# EAGLE library part EP3C40Q240 (library altera-cyclone-III)
EP3C40Q240 edit this description Auto generated by make-symbol-device-package-bsdl.ulp Rev. 34 Source: EP3C40Q240.BSD
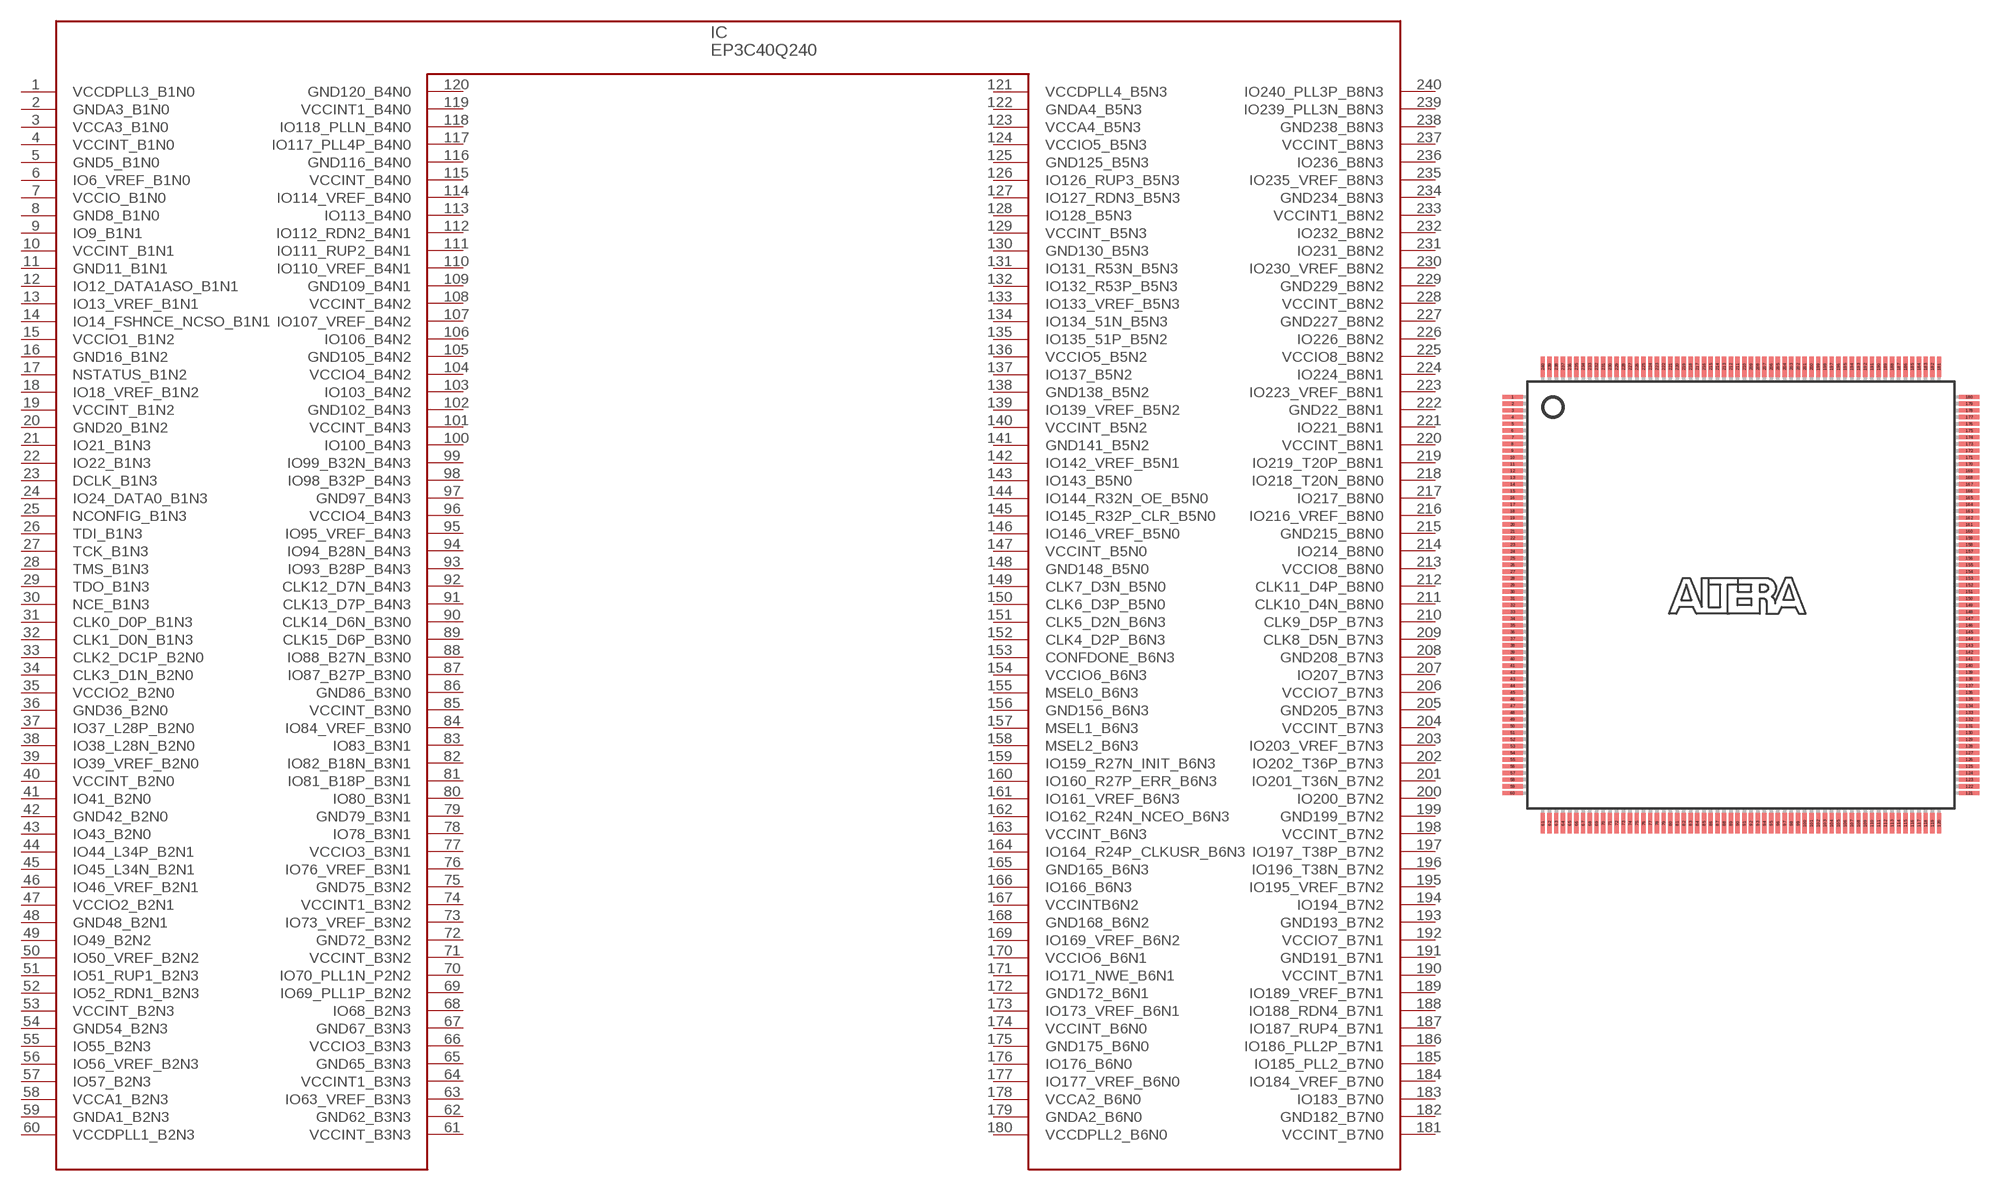
[diagram p2: symbol with the pads of PQFP240; footprint PQFP240]

Designator prefix IC

## EP3C40Q240  [PQFP240]
1  VCCDPLL3_B1N0  pwr
2  GNDA3_B1N0  pwr
3  VCCA3_B1N0  pwr
4  VCCINT_B1N0  pwr
5  GND5_B1N0  pwr
6  IO6_VREF_B1N0  pas
7  VCCIO_B1N0  pwr
8  GND8_B1N0  pwr
9  IO9_B1N1  pas
10  VCCINT_B1N1  pwr
11  GND11_B1N1  pwr
12  IO12_DATA1ASO_B1N1  pas
13  IO13_VREF_B1N1  out
14  IO14_FSHNCE_NCSO_B1N1  out
15  VCCIO1_B1N2  pwr
16  GND16_B1N2  pwr
17  NSTATUS_B1N2  in
18  IO18_VREF_B1N2  pas
19  VCCINT_B1N2  pwr
20  GND20_B1N2  pwr
21  IO21_B1N3  pas
22  IO22_B1N3  pas
23  DCLK_B1N3  pas
24  IO24_DATA0_B1N3  pas
25  NCONFIG_B1N3  in
26  TDI_B1N3  in
27  TCK_B1N3  in
28  TMS_B1N3  in
29  TDO_B1N3  out
30  NCE_B1N3  in
31  CLK0_D0P_B1N3  pas
32  CLK1_D0N_B1N3  pas
33  CLK2_DC1P_B2N0  pas
34  CLK3_D1N_B2N0  pas
35  VCCIO2_B2N0  pwr
36  GND36_B2N0  pwr
37  IO37_L28P_B2N0  pas
38  IO38_L28N_B2N0  pas
39  IO39_VREF_B2N0  pas
40  VCCINT_B2N0  pwr
41  IO41_B2N0  pas
42  GND42_B2N0  pwr
43  IO43_B2N0  pas
44  IO44_L34P_B2N1  pas
45  IO45_L34N_B2N1  pas
46  IO46_VREF_B2N1  pas
47  VCCIO2_B2N1  pwr
48  GND48_B2N1  pwr
49  IO49_B2N2  pas
50  IO50_VREF_B2N2  pas
51  IO51_RUP1_B2N3  pas
52  IO52_RDN1_B2N3  pas
53  VCCINT_B2N3  pwr
54  GND54_B2N3  pwr
55  IO55_B2N3  pas
56  IO56_VREF_B2N3  pas
57  IO57_B2N3  pas
58  VCCA1_B2N3  pwr
59  GNDA1_B2N3  pwr
60  VCCDPLL1_B2N3  pwr
61  VCCINT_B3N3  pwr
62  GND62_B3N3  pwr
63  IO63_VREF_B3N3  pas
64  VCCINT1_B3N3  pwr
65  GND65_B3N3  pwr
66  VCCIO3_B3N3  pwr
67  GND67_B3N3  pwr
68  IO68_B2N3  pas
69  IO69_PLL1P_B2N2  pas
70  IO70_PLL1N_P2N2  pas
71  VCCINT_B3N2  pwr
72  GND72_B3N2  pwr
73  IO73_VREF_B3N2  pas
74  VCCINT1_B3N2  pwr
75  GND75_B3N2  pwr
76  IO76_VREF_B3N1  pas
77  VCCIO3_B3N1  pwr
78  IO78_B3N1  pas
79  GND79_B3N1  pwr
80  IO80_B3N1  pas
81  IO81_B18P_B3N1  pas
82  IO82_B18N_B3N1  pas
83  IO83_B3N1  pas
84  IO84_VREF_B3N0  pas
85  VCCINT_B3N0  pwr
86  GND86_B3N0  pwr
87  IO87_B27P_B3N0  pas
88  IO88_B27N_B3N0  pas
89  CLK15_D6P_B3N0  pas
90  CLK14_D6N_B3N0  pas
91  CLK13_D7P_B4N3  pas
92  CLK12_D7N_B4N3  pas
93  IO93_B28P_B4N3  pas
94  IO94_B28N_B4N3  pas
95  IO95_VREF_B4N3  pas
96  VCCIO4_B4N3  pwr
97  GND97_B4N3  pwr
98  IO98_B32P_B4N3  pas
99  IO99_B32N_B4N3  pas
100  IO100_B4N3  pas
101  VCCINT_B4N3  pwr
102  GND102_B4N3  pwr
103  IO103_B4N2  pas
104  VCCIO4_B4N2  pwr
105  GND105_B4N2  pwr
106  IO106_B4N2  pas
107  IO107_VREF_B4N2  pas
108  VCCINT_B4N2  pwr
109  GND109_B4N1  pwr
110  IO110_VREF_B4N1  pas
111  IO111_RUP2_B4N1  pas
112  IO112_RDN2_B4N1  pas
113  IO113_B4N0  pas
114  IO114_VREF_B4N0  pas
115  VCCINT_B4N0  pwr
116  GND116_B4N0  pwr
117  IO117_PLL4P_B4N0  pas
118  IO118_PLLN_B4N0  pas
119  VCCINT1_B4N0  pwr
120  GND120_B4N0  pwr
121  VCCDPLL4_B5N3  pwr
122  GNDA4_B5N3  pwr
123  VCCA4_B5N3  pwr
124  VCCIO5_B5N3  pwr
125  GND125_B5N3  pwr
126  IO126_RUP3_B5N3  pas
127  IO127_RDN3_B5N3  pas
128  IO128_B5N3  pas
129  VCCINT_B5N3  pwr
130  GND130_B5N3  pwr
131  IO131_R53N_B5N3  pas
132  IO132_R53P_B5N3  pas
133  IO133_VREF_B5N3  pas
134  IO134_51N_B5N3  pas
135  IO135_51P_B5N2  pas
136  VCCIO5_B5N2  pwr
137  IO137_B5N2  pas
138  GND138_B5N2  pwr
139  IO139_VREF_B5N2  pas
140  VCCINT_B5N2  pwr
141  GND141_B5N2  pwr
142  IO142_VREF_B5N1  pas
143  IO143_B5N0  pas
144  IO144_R32N_OE_B5N0  pas
145  IO145_R32P_CLR_B5N0  pas
146  IO146_VREF_B5N0  pas
147  VCCINT_B5N0  pwr
148  GND148_B5N0  pwr
149  CLK7_D3N_B5N0  pas
150  CLK6_D3P_B5N0  pas
151  CLK5_D2N_B6N3  pas
152  CLK4_D2P_B6N3  pas
153  CONFDONE_B6N3  in
154  VCCIO6_B6N3  pwr
155  MSEL0_B6N3  in
156  GND156_B6N3  pwr
157  MSEL1_B6N3  in
158  MSEL2_B6N3  in
159  IO159_R27N_INIT_B6N3  pas
160  IO160_R27P_ERR_B6N3  pas
161  IO161_VREF_B6N3  pas
162  IO162_R24N_NCEO_B6N3  pas
163  VCCINT_B6N3  pwr
164  IO164_R24P_CLKUSR_B6N3  pas
165  GND165_B6N3  pwr
166  IO166_B6N3  pas
167  VCCINTB6N2  pwr
168  GND168_B6N2  pwr
169  IO169_VREF_B6N2  pas
170  VCCIO6_B6N1  pwr
171  IO171_NWE_B6N1  pas
172  GND172_B6N1  pwr
173  IO173_VREF_B6N1  pas
174  VCCINT_B6N0  pwr
175  GND175_B6N0  pwr
176  IO176_B6N0  pas
177  IO177_VREF_B6N0  pas
178  VCCA2_B6N0  pwr
179  GNDA2_B6N0  pwr
180  VCCDPLL2_B6N0  pwr
181  VCCINT_B7N0  pwr
182  GND182_B7N0  pwr
183  IO183_B7N0  pas
184  IO184_VREF_B7N0  pas
185  IO185_PLL2_B7N0  pas
186  IO186_PLL2P_B7N1  pas
187  IO187_RUP4_B7N1  pas
188  IO188_RDN4_B7N1  pas
189  IO189_VREF_B7N1  pas
190  VCCINT_B7N1  pwr
191  GND191_B7N1  pwr
192  VCCIO7_B7N1  pwr
193  GND193_B7N2  pwr
194  IO194_B7N2  pas
195  IO195_VREF_B7N2  pas
196  IO196_T38N_B7N2  pas
197  IO197_T38P_B7N2  pas
198  VCCINT_B7N2  pwr
199  GND199_B7N2  pwr
200  IO200_B7N2  pas
201  IO201_T36N_B7N2  pas
202  IO202_T36P_B7N3  pas
203  IO203_VREF_B7N3  pas
204  VCCINT_B7N3  pwr
205  GND205_B7N3  pwr
206  VCCIO7_B7N3  pwr
207  IO207_B7N3  pas
208  GND208_B7N3  pwr
209  CLK8_D5N_B7N3  pas
210  CLK9_D5P_B7N3  pas
211  CLK10_D4N_B8N0  pas
212  CLK11_D4P_B8N0  pas
213  VCCIO8_B8N0  pwr
214  IO214_B8N0  pas
215  GND215_B8N0  pwr
216  IO216_VREF_B8N0  pas
217  IO217_B8N0  pas
218  IO218_T20N_B8N0  pas
219  IO219_T20P_B8N1  pas
220  VCCINT_B8N1  pwr
221  IO221_B8N1  pas
222  GND22_B8N1  pwr
223  IO223_VREF_B8N1  pas
224  IO224_B8N1  pas
225  VCCIO8_B8N2  pwr
226  IO226_B8N2  pas
227  GND227_B8N2  pwr
228  VCCINT_B8N2  pwr
229  GND229_B8N2  pwr
230  IO230_VREF_B8N2  pas
231  IO231_B8N2  pas
232  IO232_B8N2  pas
233  VCCINT1_B8N2  pwr
234  GND234_B8N3  pwr
235  IO235_VREF_B8N3  pas
236  IO236_B8N3  pas
237  VCCINT_B8N3  pwr
238  GND238_B8N3  pwr
239  IO239_PLL3N_B8N3  pas
240  IO240_PLL3P_B8N3  pas

## Footprint PQFP240 (pad centres in mm)
smd 1.5 x 0.32: 1 -17,14.75; 2 -17,14.25; 3 -17,13.75; 4 -17,13.25; 5 -17,12.75; 6 -17,12.25; 7 -17,11.75; 8 -17,11.25; 9 -17,10.75; 10 -17,10.25; 11 -17,9.75; 12 -17,9.25; 13 -17,8.75; 14 -17,8.25; 15 -17,7.75; 16 -17,7.25; 17 -17,6.75; 18 -17,6.25; 19 -17,5.75; 20 -17,5.25; 21 -17,4.75; 22 -17,4.25; 23 -17,3.75; 24 -17,3.25; 25 -17,2.75; 26 -17,2.25; 27 -17,1.75; 28 -17,1.25; 29 -17,0.75; 30 -17,0.25; 31 -17,-0.25; 32 -17,-0.75; 33 -17,-1.25; 34 -17,-1.75; 35 -17,-2.25; 36 -17,-2.75; 37 -17,-3.25; 38 -17,-3.75; 39 -17,-4.25; 40 -17,-4.75; 41 -17,-5.25; 42 -17,-5.75; 43 -17,-6.25; 44 -17,-6.75; 45 -17,-7.25; 46 -17,-7.75; 47 -17,-8.25; 48 -17,-8.75; 49 -17,-9.25; 50 -17,-9.75; 51 -17,-10.25; 52 -17,-10.75; 53 -17,-11.25; 54 -17,-11.75; 55 -17,-12.25; 56 -17,-12.75; 57 -17,-13.25; 58 -17,-13.75; 59 -17,-14.25; 60 -17,-14.75; 121 17,-14.75; 122 17,-14.25; 123 17,-13.75; 124 17,-13.25; 125 17,-12.75; 126 17,-12.25; 127 17,-11.75; 128 17,-11.25; 129 17,-10.75; 130 17,-10.25; 131 17,-9.75; 132 17,-9.25; 133 17,-8.75; 134 17,-8.25; 135 17,-7.75; 136 17,-7.25; 137 17,-6.75; 138 17,-6.25; 139 17,-5.75; 140 17,-5.25; 141 17,-4.75; 142 17,-4.25; 143 17,-3.75; 144 17,-3.25; 145 17,-2.75; 146 17,-2.25; 147 17,-1.75; 148 17,-1.25; 149 17,-0.75; 150 17,-0.25; 151 17,0.25; 152 17,0.75; 153 17,1.25; 154 17,1.75; 155 17,2.25; 156 17,2.75; 157 17,3.25; 158 17,3.75; 159 17,4.25; 160 17,4.75; 161 17,5.25; 162 17,5.75; 163 17,6.25; 164 17,6.75; 165 17,7.25; 166 17,7.75; 167 17,8.25; 168 17,8.75; 169 17,9.25; 170 17,9.75; 171 17,10.25; 172 17,10.75; 173 17,11.25; 174 17,11.75; 175 17,12.25; 176 17,12.75; 177 17,13.25; 178 17,13.75; 179 17,14.25; 180 17,14.75
smd 0.32 x 1.5: 61 -14.75,-17; 62 -14.25,-17; 63 -13.75,-17; 64 -13.25,-17; 65 -12.75,-17; 66 -12.25,-17; 67 -11.75,-17; 68 -11.25,-17; 69 -10.75,-17; 70 -10.25,-17; 71 -9.75,-17; 72 -9.25,-17; 73 -8.75,-17; 74 -8.25,-17; 75 -7.75,-17; 76 -7.25,-17; 77 -6.75,-17; 78 -6.25,-17; 79 -5.75,-17; 80 -5.25,-17; 81 -4.75,-17; 82 -4.25,-17; 83 -3.75,-17; 84 -3.25,-17; 85 -2.75,-17; 86 -2.25,-17; 87 -1.75,-17; 88 -1.25,-17; 89 -0.75,-17; 90 -0.25,-17; 91 0.25,-17; 92 0.75,-17; 93 1.25,-17; 94 1.75,-17; 95 2.25,-17; 96 2.75,-17; 97 3.25,-17; 98 3.75,-17; 99 4.25,-17; 100 4.75,-17; 101 5.25,-17; 102 5.75,-17; 103 6.25,-17; 104 6.75,-17; 105 7.25,-17; 106 7.75,-17; 107 8.25,-17; 108 8.75,-17; 109 9.25,-17; 110 9.75,-17; 111 10.25,-17; 112 10.75,-17; 113 11.25,-17; 114 11.75,-17; 115 12.25,-17; 116 12.75,-17; 117 13.25,-17; 118 13.75,-17; 119 14.25,-17; 120 14.75,-17; 181 14.75,17; 182 14.25,17; 183 13.75,17; 184 13.25,17; 185 12.75,17; 186 12.25,17; 187 11.75,17; 188 11.25,17; 189 10.75,17; 190 10.25,17; 191 9.75,17; 192 9.25,17; 193 8.75,17; 194 8.25,17; 195 7.75,17; 196 7.25,17; 197 6.75,17; 198 6.25,17; 199 5.75,17; 200 5.25,17; 201 4.75,17; 202 4.25,17; 203 3.75,17; 204 3.25,17; 205 2.75,17; 206 2.25,17; 207 1.75,17; 208 1.25,17; 209 0.75,17; 210 0.25,17; 211 -0.25,17; 212 -0.75,17; 213 -1.25,17; 214 -1.75,17; 215 -2.25,17; 216 -2.75,17; 217 -3.25,17; 218 -3.75,17; 219 -4.25,17; 220 -4.75,17; 221 -5.25,17; 222 -5.75,17; 223 -6.25,17; 224 -6.75,17; 225 -7.25,17; 226 -7.75,17; 227 -8.25,17; 228 -8.75,17; 229 -9.25,17; 230 -9.75,17; 231 -10.25,17; 232 -10.75,17; 233 -11.25,17; 234 -11.75,17; 235 -12.25,17; 236 -12.75,17; 237 -13.25,17; 238 -13.75,17; 239 -14.25,17; 240 -14.75,17